# Altium footprint library EceParts.PcbLib: 93 footprints (part 2 of 6)
Each footprint in its own frame and in the unit in brackets; x right, y up, seen from the top. Pads: shape width x height; smd on the part's side, far side on the other; paste and mask are expansions set on the pad; w line width, h text height; cw(c..) or ccw(c..) is an arc to the next point about the centre after c.
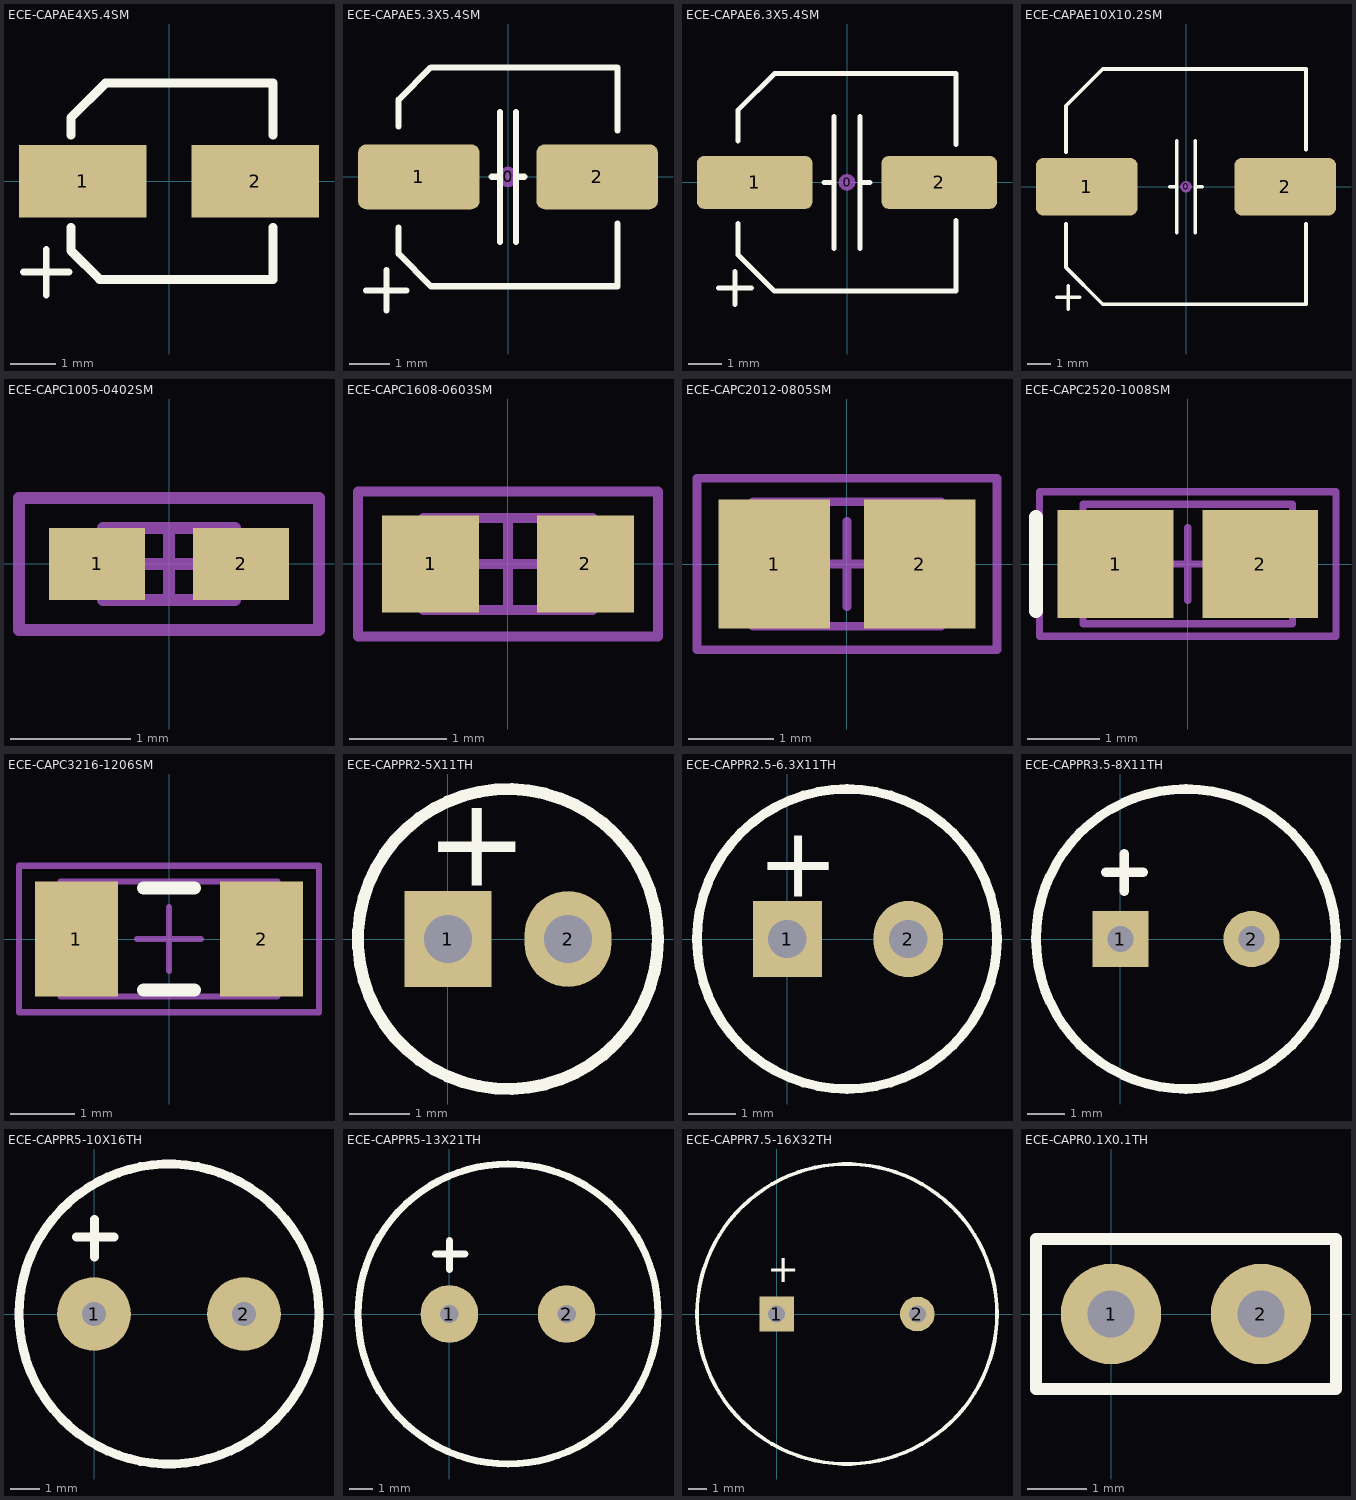
[diagram p1: the footprints below, top view; thin cyan lines are the x and y axes]

## ECE-CAPAE4X5.4SM [mm] "Capacitor, polarized, aluminum can; 4x5.4mm DxH"
height 5.4
pads (2):
  rect 2.8x1.6 smd: 1(-1.9,0) 2(1.9,0)
Top Overlay:
  lines w0.152: -3.2,-2 -2.7,-2 -2.2,-2 ; -2.7,-2.5 -2.7,-1.5
  lines w0.2: -2.159,-1.016 -2.159,-1.524 -1.524,-2.159 2.286,-2.159 2.286,-1.016 ; -2.159,1.016 -2.159,1.397 -1.397,2.159 2.286,2.159 2.286,1.016

## ECE-CAPAE5.3X5.4SM [mm] "Capacitor, polarized, aluminum can; 5x5.4mm DxH"
height 5.4
pads (3):
  round 0.508 on Mech15: 0(0,0)
  rrect25% 3x1.6 smd: 1(-2.2,0) 2(2.2,0)
Top Overlay:
  lines w0.152: -3.5,-2.8 -3,-2.8 -2.5,-2.8 ; -3,-3.3 -3,-2.3 ; -2.7,-1.25 -2.7,-1.9 -1.9,-2.7 2.7,-2.7 2.7,-1.15 ; -2.7,1.25 -2.7,1.9 -1.9,2.7 2.7,2.7 2.7,1.15 ; -0.4,0 -0.2,0 ; -0.2,-1.6 -0.2,1.6 ; 0.2,-1.6 0.2,1.6 ; 0.2,0 0.4,0
3D body "Cap, elec, 5x5.7_.STEP": height 5.7, standoff 0, extent -2.65,-2.65 2.65,2.65

## ECE-CAPAE6.3X5.4SM [mm] "Capacitor, polarized, aluminum can; 6.3x5.4mm DxH"
height 5.4
pads (3):
  round 0.508 on Mech15: 0(0,0)
  rrect25% 3.5x1.6 smd: 1(-2.8,0) 2(2.8,0)
Top Overlay:
  lines w0.152: -3.9,-3.2 -3.4,-3.2 -2.9,-3.2 ; -3.4,-3.7 -3.4,-2.7 ; -3.3,-1.25 -3.3,-2.2 -2.2,-3.3 3.3,-3.3 3.3,-1.15 ; -3.3,1.25 -3.3,2.2 -2.2,3.3 3.3,3.3 3.3,1.15 ; -0.7,0 -0.5,0 ; -0.4,-2 -0.4,2 ; 0.4,-2 0.4,2 ; 0.5,0 0.7,0
3D body "Cap, elec, 6.3x4.2.STEP": height 4.23, standoff 0, extent -3.3,-3.3 3.3,3.3

## ECE-CAPAE10X10.2SM [mm] "Capacitor, polarized, aluminum can; 10x10.2mm DxH"
height 10.2
pads (3):
  round 0.508 on Mech15: 0(0,0)
  rrect25% 4.4x2.5 smd: 1(-4.3,0) 2(4.3,0)
Top Overlay:
  lines w0.152: -5.6,-4.8 -5.1,-4.8 -4.6,-4.8 ; -5.2,-1.6 -5.2,-3.5 -3.6,-5.1 5.2,-5.1 5.2,-1.6 ; -5.2,1.5 -5.2,3.5 -3.6,5.1 5.2,5.1 5.2,1.6 ; -5.1,-5.3 -5.1,-4.3 ; -0.7,0 -0.5,0 ; -0.4,-2 -0.4,2 ; 0.4,-2 0.4,2 ; 0.5,0 0.7,0

## ECE-CAPC1005-0402SM [mm] "Chip Capacitor, Body 1.0x0.5mm, IPC Medium Density"
height 0.6
pads (2):
  rect 0.8x0.6 smd: 1(-0.6,0) 2(0.6,0)
Mechanical 13:
  lines w0.1: -0.55,-0.3 -0.55,0.3 0.55,0.3 0.55,-0.3 -0.55,-0.3
Mechanical 15:
  lines w0.1: -0.3,0 0.3,0 ; 0,-0.3 0,0.3 ; -1.25,-0.55 -1.25,0.55 1.25,0.55 1.25,-0.55 -1.25,-0.55
3D body: height 0.6, standoff 0, extent -0.55,-0.3 0.55,0.3

## ECE-CAPC1608-0603SM [mm] "Chip Capacitor, Body 1.6x0.8mm, IPC Medium Density"
height 0.022
pads (2):
  rect 1x1 smd: 1(-0.8,0) 2(0.8,0)
Mechanical 13:
  lines w0.1: -0.875,-0.475 0.875,-0.475 0.875,0.475 -0.875,0.475 -0.875,-0.475
Mechanical 15:
  lines w0.1: -0.475,0 0.475,0 ; 0,-0.475 0,0.475 ; -1.55,-0.75 1.55,-0.75 1.55,0.75 -1.55,0.75 -1.55,-0.75
3D body: height 0.85, standoff 0, extent -0.875,-0.475 0.875,0.475

## ECE-CAPC2012-0805SM [mm] "Chip Capacitor, Body 2.0x1.3mm, IPC Medium Density"
height 0.028
pads (2):
  rect 1.3x1.5 smd: 1(-0.85,0) 2(0.85,0)
Mechanical 13:
  lines w0.1: -1.1,-0.725 1.1,-0.725 1.1,0.725 -1.1,0.725 -1.1,-0.725
Mechanical 15:
  lines w0.1: -0.5,0 0.5,0 ; 0,-0.5 0,0.5 ; -1.75,-1 1.75,-1 1.75,1 -1.75,1 -1.75,-1
3D body "CAP_ 0805.STEP": height 1.2, standoff 0, extent -1,-0.6 1,0.6

## ECE-CAPC2520-1008SM [mm] "Chip Capacitor, Body 2.54x1.27mm, IPC Medium Density"
height 1.66
pads (2):
  rect 1.6x1.5 smd: 1(-1,0) 2(1,0)
Top Overlay:
  lines w0.2: -2.1,-0.65 -2.1,0.65
Mechanical 13:
  lines w0.1: -1.45,-0.825 -1.45,0.825 1.45,0.825 1.45,-0.825 -1.45,-0.825
Mechanical 15:
  lines w0.1: -0.5,0 0.5,0 ; 0,-0.5 0,0.5 ; -2.05,-1 -2.05,1 2.05,1 2.05,-1 -2.05,-1
3D body: height 1.66, standoff 0, extent -1.45,-0.825 1.45,0.825

## ECE-CAPC3216-1206SM [mm] "Chip Capacitor, Body 3.2x1.6mm, IPC Medium Density"
height 1.35
pads (2):
  rect 1.3x1.8 smd: 1(-1.45,0) 2(1.45,0)
Top Overlay:
  lines w0.2: -0.4,-0.8 0.4,-0.8 ; -0.4,0.8 0.4,0.8
Mechanical 13:
  lines w0.1: -1.7,-0.9 -1.7,0.9 1.7,0.9 1.7,-0.9 -1.7,-0.9
Mechanical 15:
  lines w0.1: -0.5,0 0.5,0 ; 0,-0.5 0,0.5 ; -2.35,-1.15 -2.35,1.15 2.35,1.15 2.35,-1.15 -2.35,-1.15
3D body: height 1.35, standoff 0, extent -1.7,-0.9 1.7,0.9

## ECE-CAPPR2-5X11TH [mm] "Polarised Radial Cap Dia 5mm"
height 11
pads (2):
  rect 1.45x1.6 hole 0.8: 1(0,0)
  oval 1.45x1.6 hole 0.8: 2(2,0)
Top Overlay:
  circle w0.2: c1,0 r2.5
  text "+" at -0.381,0.889 h1.5
3D body: height 11.43, standoff 1.02, extent -1.499,-2.499 3.499,2.499
3D body: height 3.81, standoff -1.27, extent 1.622,-0.38 2.381,0.38
3D body: height 3.81, standoff -1.27, extent -0.378,-0.126 0.381,0.634

## ECE-CAPPR2.5-6.3X11TH [mm] "Polarised Radial Cap Dia 6.3mm"
height 11
pads (2):
  rect 1.45x1.6 hole 0.8: 1(0,0)
  oval 1.45x1.6 hole 0.8: 2(2.54,0)
Top Overlay:
  circle w0.2: c1.254,0 r3.15
  text "+" at -0.635,0.889 h1.5

## ECE-CAPPR3.5-8X11TH [mm] "Polarised Radial Cap Dia 8mm"
height 11
pads (2):
  rect 1.5x1.5 hole 0.7: 1(0,0)
  round 1.5 hole 0.7: 2(3.5,0)
Top Overlay:
  circle w0.254: c1.75,0 r4
  lines w0.254: -0.393,1.778 0.607,1.778 ; 0.099,1.27 0.099,2.27

## ECE-CAPPR5-10X16TH [mm] "Polarised Radial Cap Dia 10mm"
height 16
pads (2):
  round 2.5 hole 0.8: 1(0,0) 2(5.08,0)
Top Overlay:
  circle w0.305: c2.54,0 r5.08
  lines w0.305: -0.6,2.6 0.67,2.6 ; 0.011,1.924 0.011,3.194

## ECE-CAPPR5-13X21TH [mm] "Polarised Radial Cap Dia 13mm"
height 21
pads (2):
  round 2.5 hole 0.8: 1(0,0) 2(5.08,0)
Top Overlay:
  circle w0.305: c2.54,0 r6.5
  lines w0.305: -0.6,2.6 0.67,2.6 ; 0.011,1.924 0.011,3.194

## ECE-CAPPR7.5-16X32TH [mm] "Polarised Radial Cap Dia 16mm"
height 32
pads (2):
  rect 1.85x1.85 hole 0.9: 1(0,0)
  round 1.85 hole 0.9: 2(7.5,0)
Top Overlay:
  circle w0.2: c3.75,0 r8
  text "+" at -0.5,1.7 h1.5

## ECE-CAPR0.1X0.1TH [mm] "Radial non polarised Capacitor"
height 2.54
pads (2):
  round 1.7 hole 0.8: 1(0,0) 2(2.54,0)
Top Overlay:
  lines w0.2: -1.27,-1.27 3.81,-1.27 3.81,1.27 -1.27,1.27 -1.27,-1.27